# EAGLE library part ESP-03MTS (library MTS-OTR_Custom)
This is an integrated WiFI microcontroller. ESP-03 package
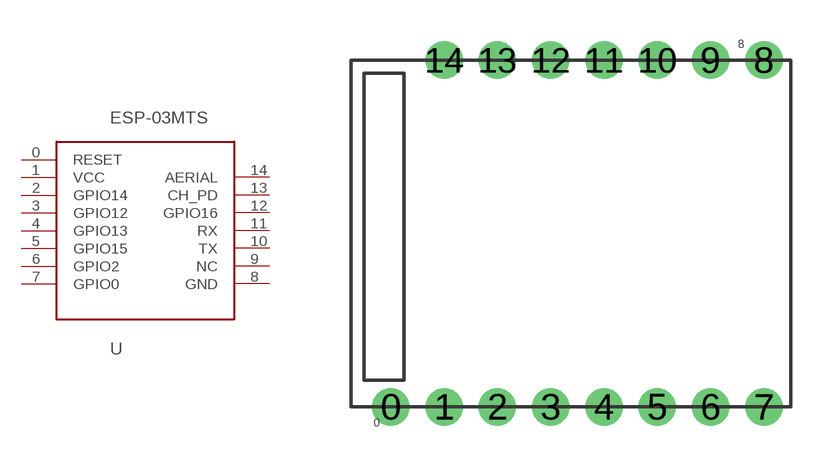
[diagram p29: symbol with the pads of ESP-03MTS; footprint ESP-03MTS]

Designator prefix -

## ESP-03MTS  [ESP-03MTS]
0  RESET
1  VCC
2  GPIO14
3  GPIO12
4  GPIO13
5  GPIO15
6  GPIO2
7  GPIO0
8  GND
9  NC
10  TX
11  RX
12  GPIO16
13  CH_PD
14  AERIAL

## Footprint ESP-03MTS (pad centres in mm)
drill 0.9 pad 1.27: 0 -7,-2; 1 -5,-2; 2 -3,-2; 3 -1,-2; 4 1,-2; 5 3,-2; 6 5,-2; 7 7,-2; 8 7,11; 9 5,11; 10 3,11; 11 1,11; 12 -1,11; 13 -3,11; 14 -5,11